# EAGLE library part AS1322 (library FaBo-Supply)
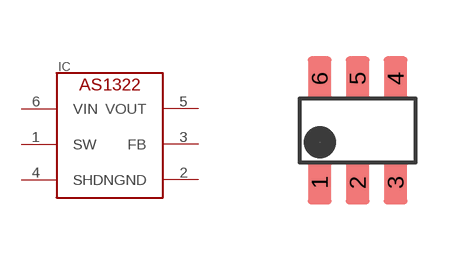
[diagram p7: symbol with the pads of TSOT-23-6; footprint TSOT-23-6]

Designator prefix IC

## AS1322  [TSOT-23-6]
1  SW
2  GND
3  FB
4  SHDN
5  VOUT
6  VIN

## Footprint TSOT-23-6 (pad centres in mm)
smd 0.6 x 1.1: 1 -0.95,-1.3; 2 0,-1.3; 3 0.95,-1.3; 4 0.95,1.3; 5 0,1.3; 6 -0.95,1.3